# Altium footprint library GDZ8V2LP3-7.PcbLib: 1 footprints
Each footprint in its own frame and in the unit in brackets; x right, y up, seen from the top. Pads: shape width x height; smd on the part's side, far side on the other; paste and mask are expansions set on the pad; w line width, h text height; cw(c..) or ccw(c..) is an arc to the next point about the centre after c.
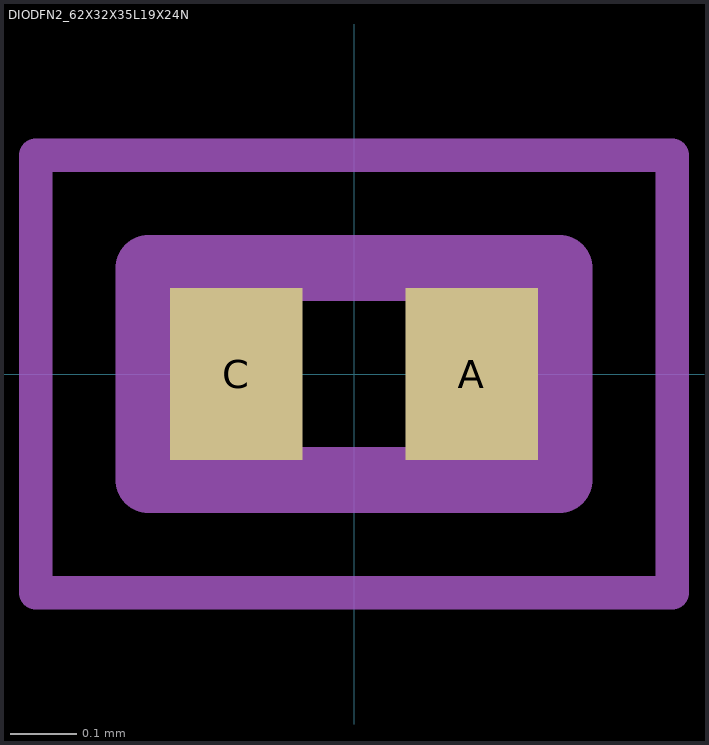
[diagram p0: the footprint, top view; thin cyan lines are the x and y axes]

## DIODFN2_62X32X35L19X24N [mm]
pads (2):
  rect 0.2x0.26 smd: A(0.178,0) C(-0.178,0)
Mechanical 13:
  lines w0.1: -0.31,-0.16 -0.31,0.16 0.31,0.16 0.31,-0.16 -0.31,-0.16
Mechanical 15:
  lines w0.05: -0.48,-0.33 -0.48,0.33 0.48,0.33 0.48,-0.33 -0.48,-0.33
3D body "step_temp.STEP": height 0.33, standoff -0.02, extent -0.31,-0.16 0.31,0.16